# EAGLE library part CF-CARD-HODER (library Deegou_Connector)
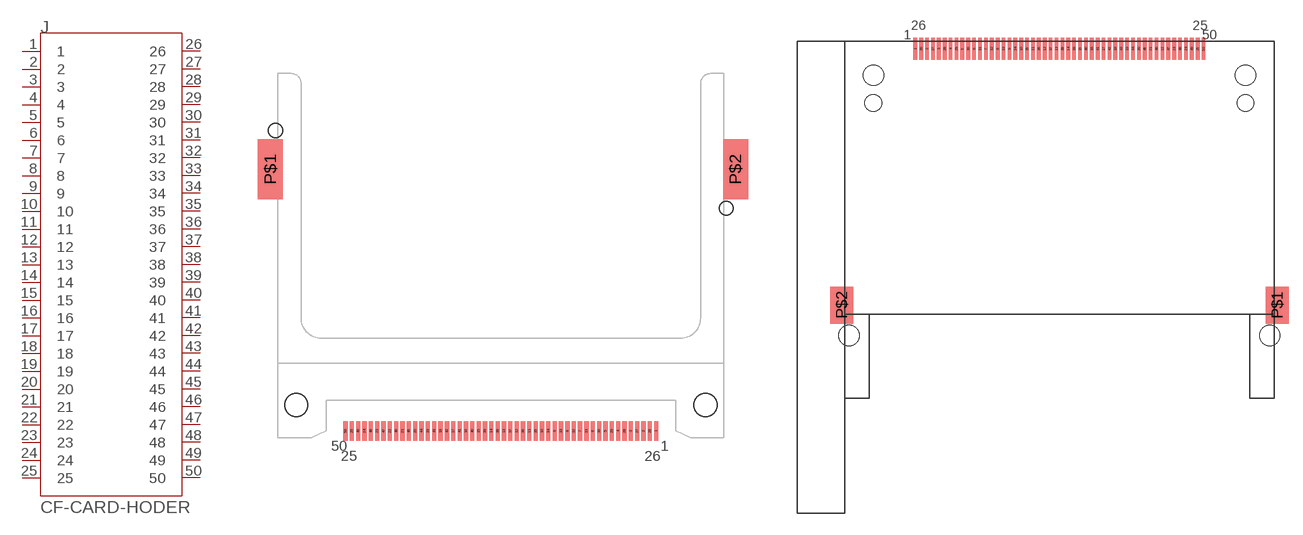
[diagram p44: symbol with the pads of MOLEX-CF-CARD-HODE; footprints MOLEX-CF-CARD-HODE, CFHOLDER-10061861]

Designator prefix J

## CF-CARD-HODER67155-0002  [MOLEX-CF-CARD-HODE]
1  1
2  2
3  3
4  4
5  5
6  6
7  7
8  8
9  9
10  10
11  11
12  12
13  13
14  14
15  15
16  16
17  17
18  18
19  19
20  20
21  21
22  22
23  23
24  24
25  25
26  26
27  27
28  28
29  29
30  30
31  31
32  32
33  33
34  34
35  35
36  36
37  37
38  38
39  39
40  40
41  41
42  42
43  43
44  44
45  45
46  46
47  47
48  48
49  49
50  50

## CF-CARD-HODER  [CFHOLDER-10061861]
Pads as for MOLEX-CF-CARD-HODE

## Footprint MOLEX-CF-CARD-HODE (pad centres in mm)
smd 0.42 x 2: 1 15.555,0; 2 14.285,0; 3 13.015,0; 4 11.745,0; 5 10.475,0; 6 9.205,0; 7 7.935,0; 8 6.665,0; 9 5.395,0; 10 4.125,0; 11 2.855,0; 12 1.585,0; 13 0.315,0; 14 -0.955,0; 15 -2.225,0; 16 -3.495,0; 17 -4.765,0; 18 -6.035,0; 19 -7.305,0; 20 -8.575,0; 21 -9.845,0; 22 -11.115,0; 23 -12.385,0; 24 -13.655,0; 25 -14.925,0; 26 14.92,0; 27 13.65,0; 28 12.38,0; 29 11.11,0; 30 9.84,0; 31 8.57,0; 32 7.3,0; 33 6.03,0; 34 4.76,0; 35 3.49,0; 36 2.22,0; 37 0.95,0; 38 -0.32,0; 39 -1.59,0; 40 -2.86,0; 41 -4.13,0; 42 -5.4,0; 43 -6.67,0; 44 -7.94,0; 45 -9.21,0; 46 -10.48,0; 47 -11.75,0; 48 -13.02,0; 49 -14.29,0; 50 -15.56,0
smd 2.5 x 6: P$1 -23.07,26.2; P$2 23.5,26.2

## Footprint CFHOLDER-10061861 (pad centres in mm)
smd 0.4 x 2.4: 1 -15.555,0; 2 -14.285,0; 3 -13.015,0; 4 -11.745,0; 5 -10.475,0; 6 -9.205,0; 7 -7.935,0; 8 -6.665,0; 9 -5.395,0; 10 -4.125,0; 11 -2.855,0; 12 -1.585,0; 13 -0.315,0; 14 0.955,0; 15 2.225,0; 16 3.495,0; 17 4.765,0; 18 6.035,0; 19 7.305,0; 20 8.575,0; 21 9.845,0; 22 11.115,0; 23 12.385,0; 24 13.655,0; 25 14.925,0; 26 -14.92,0; 27 -13.65,0; 28 -12.38,0; 29 -11.11,0; 30 -9.84,0; 31 -8.57,0; 32 -7.3,0; 33 -6.03,0; 34 -4.76,0; 35 -3.49,0; 36 -2.22,0; 37 -0.95,0; 38 0.32,0; 39 1.59,0; 40 2.86,0; 41 4.13,0; 42 5.4,0; 43 6.67,0; 44 7.94,0; 45 9.21,0; 46 10.48,0; 47 11.75,0; 48 13.02,0; 49 14.29,0; 50 15.56,0
smd 2.5 x 4: P$1 23.5,-27.65; P$2 -23.5,-27.65
hole 2.2 at -20.08,-2.85
hole 1.8 at -20.08,-5.85
hole 2.2 at 20.08,-2.85
hole 1.8 at 20.08,-5.85
hole 2.2 at -22.7,-30.95
hole 2.2 at 22.7,-30.95